# Altium footprint library Capacitor_THT.PcbLib: 378 footprints (part 24 of 24)
Each footprint in its own frame and in the unit in brackets; x right, y up, seen from the top. Pads: shape width x height; smd on the part's side, far side on the other; paste and mask are expansions set on the pad; w line width, h text height; cw(c..) or ccw(c..) is an arc to the next point about the centre after c.
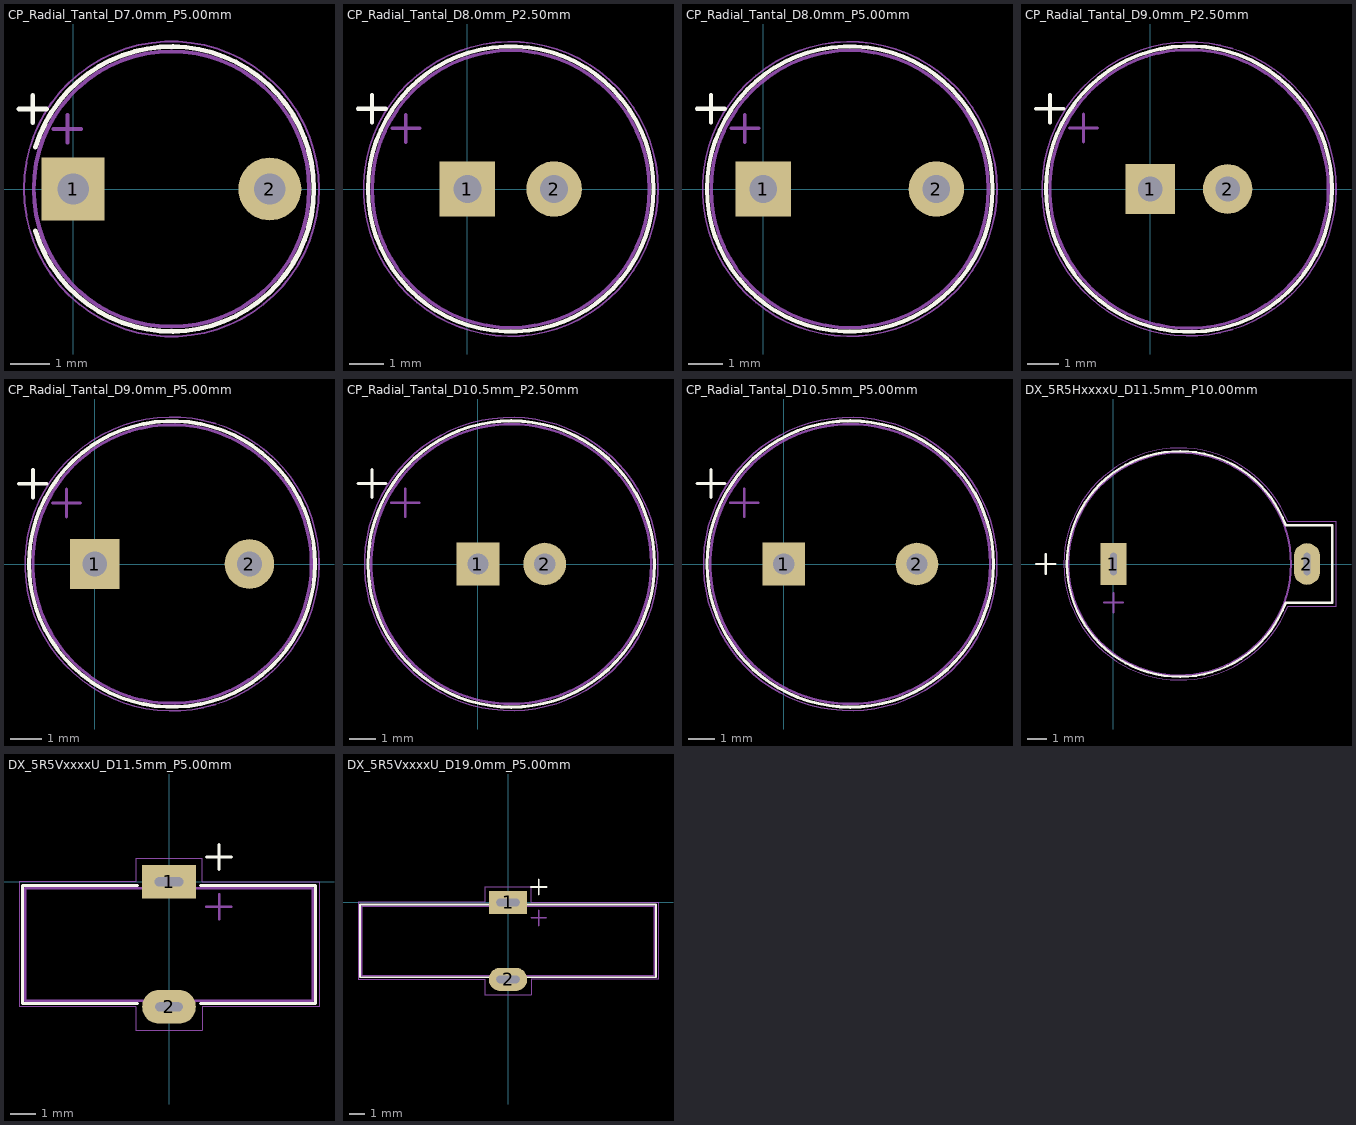
[diagram p23: the footprints below, top view; thin cyan lines are the x and y axes]

## CP_Radial_Tantal_D7.0mm_P5.00mm [mm]
pads (2):
  rect 1.6x1.6 hole 0.8: 1(0,0)
  round 1.6 hole 0.8: 2(5,0)
F.SilkS:
  lines w0.12: -1.375,2.035 -0.675,2.035 ; -1.025,1.685 -1.025,2.385 ; -0.961,-1.06 ccw(c2.5,0) -0.961,1.06
F.CrtYd:
  circle w0.05: c2.5,0 r3.75
F.Fab:
  circle w0.1: c2.5,0 r3.5
  lines w0.1: -0.496,1.528 0.204,1.528 ; -0.146,1.178 -0.146,1.877
  text "'.Designator'" at -1.547,-0.84 h1

## CP_Radial_Tantal_D8.0mm_P2.50mm [mm]
pads (2):
  rect 1.6x1.6 hole 0.8: 1(0,0)
  round 1.6 hole 0.8: 2(2.5,0)
F.SilkS:
  circle w0.12: c1.25,0 r4.12
  lines w0.12: -3.16,2.315 -2.36,2.315 ; -2.76,1.915 -2.76,2.715
F.CrtYd:
  circle w0.05: c1.25,0 r4.25
F.Fab:
  circle w0.1: c1.25,0 r4
  lines w0.1: -2.177,1.747 -1.377,1.747 ; -1.777,1.348 -1.777,2.147
  text "'.Designator'" at -2.797,-0.84 h1

## CP_Radial_Tantal_D8.0mm_P5.00mm [mm]
pads (2):
  rect 1.6x1.6 hole 0.8: 1(0,0)
  round 1.6 hole 0.8: 2(5,0)
F.SilkS:
  circle w0.12: c2.5,0 r4.12
  lines w0.12: -1.91,2.315 -1.11,2.315 ; -1.51,1.915 -1.51,2.715
F.CrtYd:
  circle w0.05: c2.5,0 r4.25
F.Fab:
  circle w0.1: c2.5,0 r4
  lines w0.1: -0.927,1.747 -0.127,1.747 ; -0.527,1.348 -0.527,2.147
  text "'.Designator'" at -1.547,-0.84 h1

## CP_Radial_Tantal_D9.0mm_P2.50mm [mm]
pads (2):
  rect 1.6x1.6 hole 0.8: 1(0,0)
  round 1.6 hole 0.8: 2(2.5,0)
F.SilkS:
  circle w0.12: c1.25,0 r4.62
  lines w0.12: -3.695,2.595 -2.795,2.595 ; -3.245,2.145 -3.245,3.045
F.CrtYd:
  circle w0.05: c1.25,0 r4.75
F.Fab:
  circle w0.1: c1.25,0 r4.5
  lines w0.1: -2.608,1.967 -1.708,1.967 ; -2.158,1.518 -2.158,2.418
  text "'.Designator'" at -2.797,-0.84 h1

## CP_Radial_Tantal_D9.0mm_P5.00mm [mm]
pads (2):
  rect 1.6x1.6 hole 0.8: 1(0,0)
  round 1.6 hole 0.8: 2(5,0)
F.SilkS:
  circle w0.12: c2.5,0 r4.62
  lines w0.12: -2.445,2.595 -1.545,2.595 ; -1.995,2.145 -1.995,3.045
F.CrtYd:
  circle w0.05: c2.5,0 r4.75
F.Fab:
  circle w0.1: c2.5,0 r4.5
  lines w0.1: -1.358,1.967 -0.458,1.967 ; -0.908,1.518 -0.908,2.418
  text "'.Designator'" at -1.547,-0.84 h1

## CP_Radial_Tantal_D10.5mm_P2.50mm [mm]
pads (2):
  rect 1.6x1.6 hole 0.8: 1(0,0)
  round 1.6 hole 0.8: 2(2.5,0)
F.SilkS:
  circle w0.12: c1.25,0 r5.37
  lines w0.12: -4.497,3.015 -3.447,3.015 ; -3.972,2.49 -3.972,3.54
F.CrtYd:
  circle w0.05: c1.25,0 r5.5
F.Fab:
  circle w0.1: c1.25,0 r5.25
  lines w0.1: -3.254,2.298 -2.204,2.298 ; -2.729,1.773 -2.729,2.822
  text "'.Designator'" at -2.797,-0.84 h1

## CP_Radial_Tantal_D10.5mm_P5.00mm [mm]
pads (2):
  rect 1.6x1.6 hole 0.8: 1(0,0)
  round 1.6 hole 0.8: 2(5,0)
F.SilkS:
  circle w0.12: c2.5,0 r5.37
  lines w0.12: -3.247,3.015 -2.197,3.015 ; -2.722,2.49 -2.722,3.54
F.CrtYd:
  circle w0.05: c2.5,0 r5.5
F.Fab:
  circle w0.1: c2.5,0 r5.25
  lines w0.1: -2.004,2.298 -0.954,2.298 ; -1.479,1.773 -1.479,2.822
  text "'.Designator'" at -1.547,-0.84 h1

## DX_5R5HxxxxU_D11.5mm_P10.00mm [mm]
pads (2):
  rect 1.35x2.15 hole 1.15 slot 0.35 at 0 deg: 1(0,0)
  rrect100% 1.35x2.15 hole 1.15 slot 0.35 at 0 deg: 2(10,0)
F.SilkS:
  lines w0.12: -4,0 -3,0 ; -3.5,-0.5 -3.5,0.5 ; 8.9,-2 11.3,-2 11.3,2 8.9,2 ccw(c3.425,0) 8.9,-2
F.CrtYd:
  lines w0.05: 9,-2.2 11.5,-2.2 11.5,2.2 9,2.2 ccw(c3.425,0) 9,-2.2
F.Fab:
  circle w0.1: c3.425,0 r5.75
  lines w0.1: -0.5,-2 0.5,-2 ; 0,-2.5 0,-1.5
  text "'.Designator'" at 0.953,-0.84 h1

## DX_5R5VxxxxU_D11.5mm_P5.00mm [mm]
pads (2):
  rect 2.15x1.35 hole 0.35 slot 1.15 at 0 deg: 1(0,0)
  rrect100% 2.15x1.35 hole 0.35 slot 1.1 at 0 deg: 2(0,-5)
F.SilkS:
  lines w0.12: -1.27,-4.86 -5.86,-4.86 -5.86,-0.14 -1.27,-0.14 ; 1.27,-4.86 5.86,-4.86 5.86,-0.14 1.27,-0.14 ; 1.5,1 2.5,1 ; 2,0.5 2,1.5
F.CrtYd:
  lines w0.05: -6,-5 -6,0 -1.33,0 -1.33,0.93 1.33,0.93 1.33,0 6,0 6,-5 1.33,-5 1.33,-5.93 -1.33,-5.93 -1.33,-5 -6,-5
F.Fab:
  lines w0.1: 1.5,-1 2.5,-1 ; 2,-1.5 2,-0.5 ; -5.75,-4.75 5.75,-4.75 5.75,-0.25 -5.75,-0.25 -5.75,-4.75
  text "'.Designator'" at -4.047,-3.34 h1

## DX_5R5VxxxxU_D19.0mm_P5.00mm [mm]
pads (2):
  rect 2.5x1.5 hole 0.5 slot 1.5 at 0 deg: 1(0,0)
  rrect100% 2.5x1.5 hole 0.5 slot 1.5 at 0 deg: 2(0,-5)
F.SilkS:
  lines w0.12: -1.27,-4.86 -9.61,-4.86 -9.61,-0.14 -1.27,-0.14 ; 1.27,-4.86 9.61,-4.86 9.61,-0.14 1.27,-0.14 ; 1.5,1 2.5,1 ; 2,0.5 2,1.5
F.CrtYd:
  lines w0.05: -9.75,-5 -9.75,0 -1.5,0 -1.5,1 1.5,1 1.5,0 9.75,0 9.75,-5 1.5,-5 1.5,-6 -1.5,-6 -1.5,-5 -9.75,-5
F.Fab:
  lines w0.1: 1.5,-1 2.5,-1 ; 2,-1.5 2,-0.5 ; -9.5,-4.75 9.5,-4.75 9.5,-0.25 -9.5,-0.25 -9.5,-4.75
  text "'.Designator'" at -4.047,-3.34 h1